# Altium schematic symbol library SnapEDAsch.SchLib: 1 symbol
Pins are listed as number, name and electrical type; pins without a type are passive.

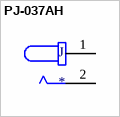
[diagram p0: symbol PJ-037AH]

## PJ-037AH
designator J
2.0 x 6.5 mm, 5.0 A, Horizontal, Through Hole, Dc Power Jack Connector; MF: CUI Devices; MP: PJ-037AH; Value: *; Availability: Unavailable; Package: None; SnapEDA_Link: https://www.snapeda.com/parts/PJ-037AH/CUI%20Devices/view-part/329175/?ref=snap; Price: None
footprint CUI_PJ-037AH
pins: 1, 2